# Altium schematic symbol library MTP10.SchLib: 3 symbols
Pins are listed as number, name and electrical type; pins without a type are passive.

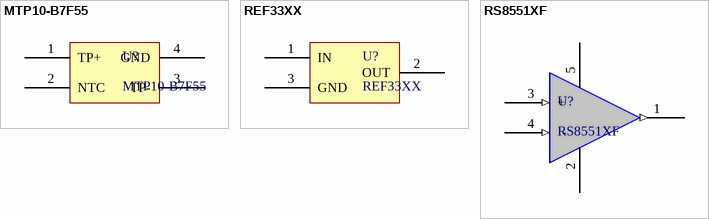
[diagram p0: symbols MTP10-B7F55 to RS8551XF]

## MTP10-B7F55
designator U?
MEMS 热电堆芯片
footprint MTP-10B
pins: 1 TP+, 2 NTC, 3 TP-, 4 GND

## REF33XX
designator U?
电压基准
footprint SOT23-3L (3x1.3x1mm(长宽高))
pins: 1 IN, 2 OUT, 3 GND

## RS8551XF
designator U?
仪表放大器
footprint SOT23-5M (3x1.6x1.1mm(长宽高))
pins: 1 OUT (out), 2 GND (power), 3 + (in), 4 － (in), 5 VDD (power)